# EAGLE library part LL1676 (library wheat)
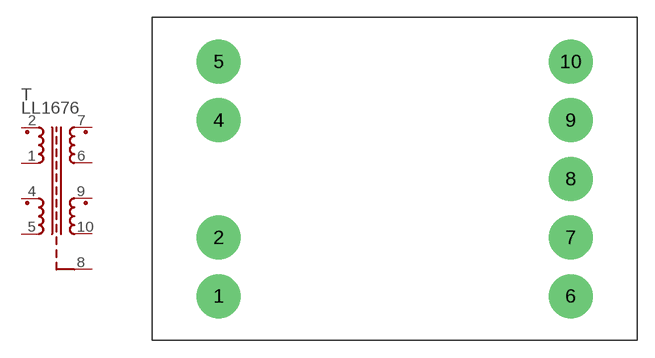
[diagram p259: symbol with the pads of LL1676; footprint LL1676]

Designator prefix T

## LL1676  [LL1676]
1  2  pas
2  1  pas
4  5  pas
5  4  pas
6  7  pas
7  10  pas
8  3  pas
9  6  pas
10  9  pas

## Footprint LL1676 (pad centres in mm)
drill 1.676 pad 3.81: 1 -15.24,-10.16; 2 -15.24,-5.08; 4 -15.24,5.08; 5 -15.24,10.16; 6 15.24,-10.16; 7 15.24,-5.08; 8 15.24,0; 9 15.24,5.08; 10 15.24,10.16